# Altium schematic symbol library RES_2K.SchLib: 1 symbol
Pins are listed as number, name and electrical type; pins without a type are passive.

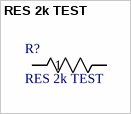
[diagram p0: symbol RES 2k TEST]

## RES 2k TEST
designator R?
No Description Available; Manufacturer_Part_Number: RMCF0603JG2K00; Vendor: Stackpole; Built_By: EMA_Cory; SourceLibrary: Stackpole_Electronics_2019-07-10_2; Copyright: Copyright (C) 2018 Accelerated Designs. All rights reserved; RefDes: RefDes; Type: DEV
footprint RES_RMCF0603_STP
pins: 1, 2